# Altium integrated library Analog_Devices_Power_Management_Linear_Regulators.IntLib: 441 symbols (part 10 of 23)
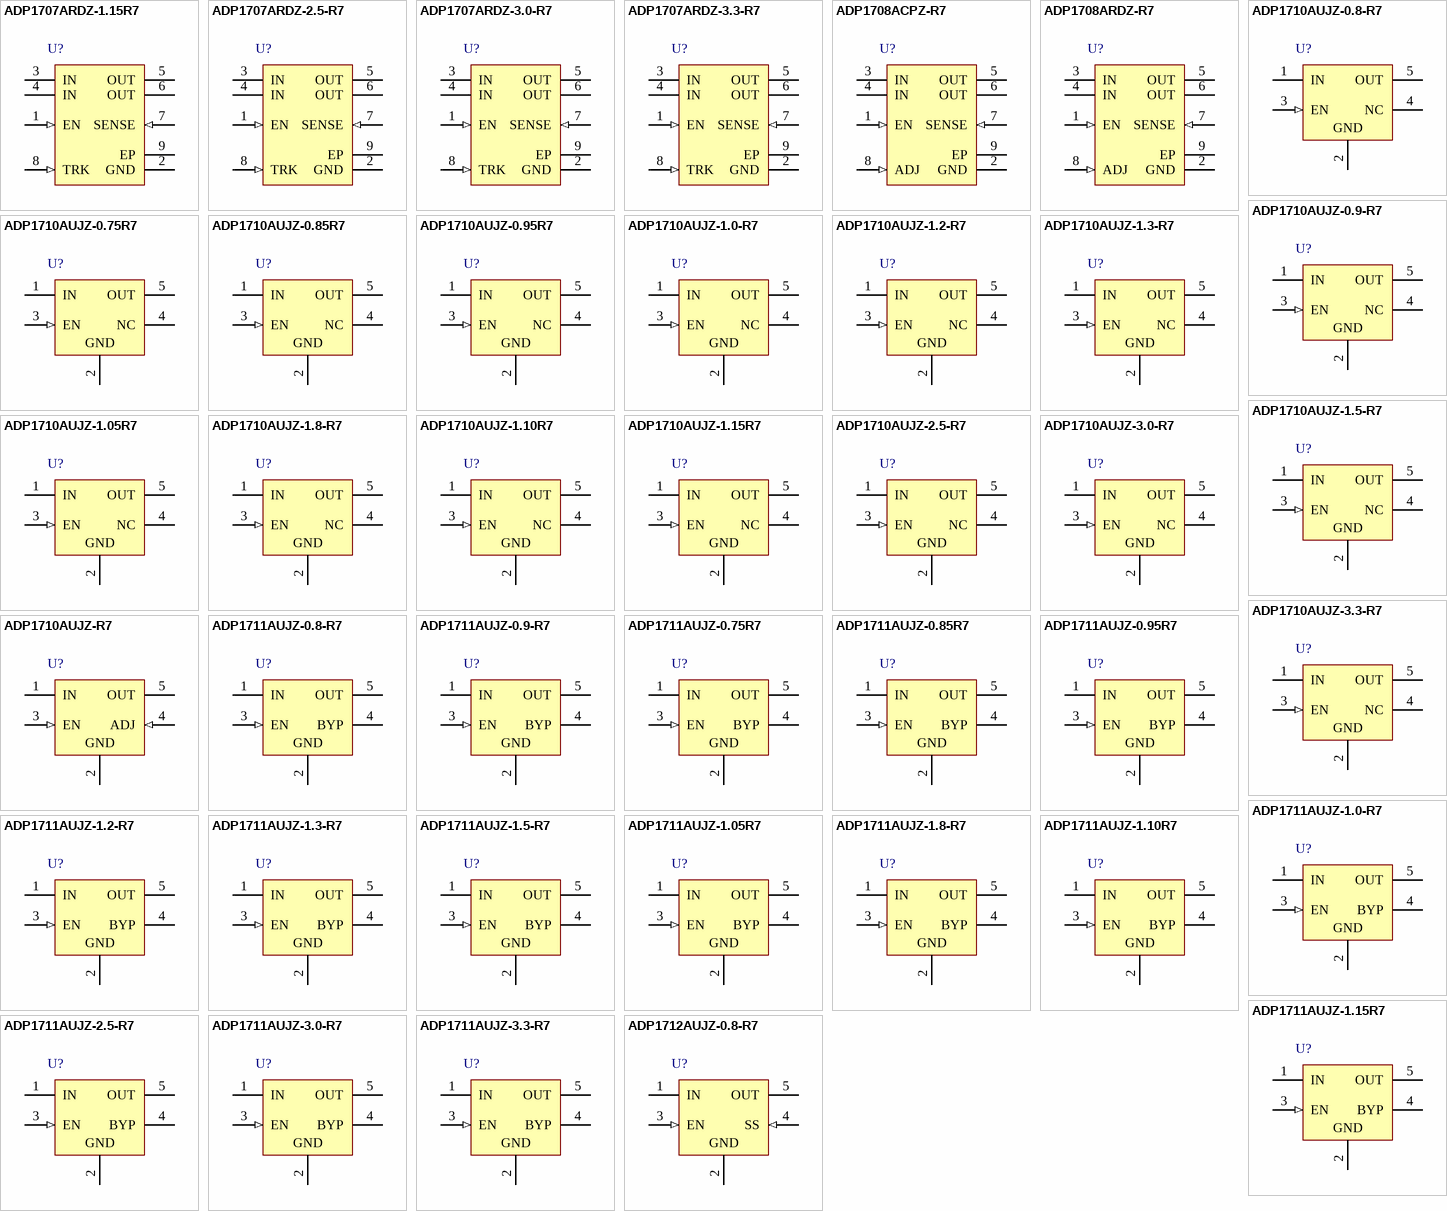
[diagram p20: symbols ADP1707ARDZ-1.15R7 to ADP1712AUJZ-0.8-R7]

## ADP1711AUJZ-1.0-R7
designator U?
150 mA, Low Dropout, CMOS Linear Regulator, 2.5 to 5.5 V Vin, 1 V Vout, Industrial, 5-pin SOT23 (UJ-5), Reel; Manufacturer: Analog Devices; PartNumber: ADP1711AUJZ-1.0-R7; Iout max: 150mA; Preset Vout Values (V): 1.0; Supply Current IGND @ Small Load: 35uA; Vin (max) (V): 5.5; Vin (min) (V): 2.5; DatasheetVersion: Rev. 0; PackageVersion: 100708-A, 10/2008; PackageReference: UJ-5; PackageDescription: 5-Pin Thin Small Outline Transistor Package, Body 2.9 x 1.6 mm, Pitch 0.95 mm; Supplier 1: Digi-Key; Supplier Part Number 1: ADP1711AUJZ-1.0-R7TR-ND; Supplier 2: Digi-Key; Supplier Part Number 2: ADP1711AUJZ-1.0-R7CT-ND; Supplier 3: Digi-Key; Supplier Part Number 3: ADP1711AUJZ-1.0-R7DKR-ND; Supplier 4: Mouser; Supplier Part Number 4: 584-ADP1711AUJZ1.0R7; Packing: Reel; Mounting Technology: Surface Mount; Code_JEDEC: MO-193-AB; ComponentLink1Description: Manufacturer URL; ComponentLink1URL: http://www.analog.com/en/index.html; ComponentLink2Description: Datasheet; ComponentLink2URL: http://www.analog.com/static/imported-files/data_sheets/ADP1710_1711.pdf; ComponentLink3Description: Package Specification; ComponentLink3URL: http:/www.analog.com/static/imported-files/packages/PKG_PDF/TSOT(UJ)/UJ_5.pdf; ComponentLink4Description: URL Link1; ComponentLink4URL: Product URL:http://www.analog.com/en/ADP1711/productSearch.html
footprint ADI-UJ-5_N (SOT23, 5-Leads, Body 2.9x1.6mm, Pitch 0.95mm, IPC Medium Density)
footprint ADI-UJ-5_L (SOT23, 5-Leads, Body 2.9x1.6mm, Pitch 0.95mm, IPC High Density)
footprint ADI-UJ-5_M (SOT23, 5-Leads, Body 2.9x1.6mm, Pitch 0.95mm, IPC Low Density)
pins: 1 IN (power) "Regulator Input Supply. Bypass IN to GND with a 1 uF or greater capacitor.", 2 GND (power) "Ground.", 3 EN (in) "Enable Input. Drive EN high to turn on the regulator; drive it low to turn off the regulator. For automatic startup, connect EN to IN.", 4 BYP "Connect a 1 nF or greater capacitor (10 nF is recommended) between BYP and GND to reduce the internal reference noise for low noise applications.", 5 OUT (power) "Regulated Output Voltage. Bypass OUT to GND with a 1 uF or greater capacitor."

## ADP1711AUJZ-1.2-R7
designator U?
150 mA, Low Dropout, CMOS Linear Regulator, 2.5 to 5.5 V Vin, 1.2 V Vout, Industrial, 5-pin SOT23 (UJ-5), Reel; Manufacturer: Analog Devices; PartNumber: ADP1711AUJZ-1.2-R7; Iout max: 150mA; Preset Vout Values (V): 1.2; Supply Current IGND @ Small Load: 35uA; Vin (max) (V): 5.5; Vin (min) (V): 2.5; DatasheetVersion: Rev. 0; PackageVersion: 100708-A, 10/2008; PackageReference: UJ-5; PackageDescription: 5-Pin Thin Small Outline Transistor Package, Body 2.9 x 1.6 mm, Pitch 0.95 mm; Supplier 1: Digi-Key; Supplier Part Number 1: ADP1711AUJZ-1.2-R7TR-ND; Supplier 2: Digi-Key; Supplier Part Number 2: ADP1711AUJZ-1.2-R7CT-ND; Supplier 3: Digi-Key; Supplier Part Number 3: ADP1711AUJZ-1.2-R7DKR-ND; Supplier 4: Mouser; Supplier Part Number 4: 584-ADP1711AUJZ1.2R7; Packing: Reel; Mounting Technology: Surface Mount; Code_JEDEC: MO-193-AB; ComponentLink1Description: Manufacturer URL; ComponentLink1URL: http://www.analog.com/en/index.html; ComponentLink2Description: Datasheet; ComponentLink2URL: http://www.analog.com/static/imported-files/data_sheets/ADP1710_1711.pdf; ComponentLink3Description: Package Specification; ComponentLink3URL: http:/www.analog.com/static/imported-files/packages/PKG_PDF/TSOT(UJ)/UJ_5.pdf; ComponentLink4Description: URL Link1; ComponentLink4URL: Product URL:http://www.analog.com/en/ADP1711/productSearch.html
footprint ADI-UJ-5_N (SOT23, 5-Leads, Body 2.9x1.6mm, Pitch 0.95mm, IPC Medium Density)
footprint ADI-UJ-5_L (SOT23, 5-Leads, Body 2.9x1.6mm, Pitch 0.95mm, IPC High Density)
footprint ADI-UJ-5_M (SOT23, 5-Leads, Body 2.9x1.6mm, Pitch 0.95mm, IPC Low Density)
pins: 1 IN (power) "Regulator Input Supply. Bypass IN to GND with a 1 uF or greater capacitor.", 2 GND (power) "Ground.", 3 EN (in) "Enable Input. Drive EN high to turn on the regulator; drive it low to turn off the regulator. For automatic startup, connect EN to IN.", 4 BYP "Connect a 1 nF or greater capacitor (10 nF is recommended) between BYP and GND to reduce the internal reference noise for low noise applications.", 5 OUT (power) "Regulated Output Voltage. Bypass OUT to GND with a 1 uF or greater capacitor."

## ADP1711AUJZ-1.3-R7
designator U?
150 mA, Low Dropout, CMOS Linear Regulator, 2.5 to 5.5 V Vin, 1.3 V Vout, Industrial, 5-pin SOT23 (UJ-5), Reel; Manufacturer: Analog Devices; PartNumber: ADP1711AUJZ-1.3-R7; Iout max: 150mA; Preset Vout Values (V): 1.3; Supply Current IGND @ Small Load: 35uA; Vin (max) (V): 5.5; Vin (min) (V): 2.5; DatasheetVersion: Rev. 0; PackageVersion: 100708-A, 10/2008; PackageReference: UJ-5; PackageDescription: 5-Pin Thin Small Outline Transistor Package, Body 2.9 x 1.6 mm, Pitch 0.95 mm; Supplier 1: Digi-Key; Supplier Part Number 1: ADP1711AUJZ-1.3-R7TR-ND; Supplier 2: Digi-Key; Supplier Part Number 2: ADP1711AUJZ-1.3-R7CT-ND; Supplier 3: Digi-Key; Supplier Part Number 3: ADP1711AUJZ-1.3-R7DKR-ND; Supplier 4: Mouser; Supplier Part Number 4: 584-ADP1711AUJZ1.3R7; Packing: Reel; Mounting Technology: Surface Mount; Code_JEDEC: MO-193-AB; ComponentLink1Description: Manufacturer URL; ComponentLink1URL: http://www.analog.com/en/index.html; ComponentLink2Description: Datasheet; ComponentLink2URL: http://www.analog.com/static/imported-files/data_sheets/ADP1710_1711.pdf; ComponentLink3Description: Package Specification; ComponentLink3URL: http:/www.analog.com/static/imported-files/packages/PKG_PDF/TSOT(UJ)/UJ_5.pdf; ComponentLink4Description: URL Link1; ComponentLink4URL: Product URL:http://www.analog.com/en/ADP1711/productSearch.html
footprint ADI-UJ-5_N (SOT23, 5-Leads, Body 2.9x1.6mm, Pitch 0.95mm, IPC Medium Density)
footprint ADI-UJ-5_L (SOT23, 5-Leads, Body 2.9x1.6mm, Pitch 0.95mm, IPC High Density)
footprint ADI-UJ-5_M (SOT23, 5-Leads, Body 2.9x1.6mm, Pitch 0.95mm, IPC Low Density)
pins: 1 IN (power) "Regulator Input Supply. Bypass IN to GND with a 1 uF or greater capacitor.", 2 GND (power) "Ground.", 3 EN (in) "Enable Input. Drive EN high to turn on the regulator; drive it low to turn off the regulator. For automatic startup, connect EN to IN.", 4 BYP "Connect a 1 nF or greater capacitor (10 nF is recommended) between BYP and GND to reduce the internal reference noise for low noise applications.", 5 OUT (power) "Regulated Output Voltage. Bypass OUT to GND with a 1 uF or greater capacitor."

## ADP1711AUJZ-1.5-R7
designator U?
150 mA, Low Dropout, CMOS Linear Regulator, 2.5 to 5.5 V Vin, 1.5 V Vout, Industrial, 5-pin SOT23 (UJ-5), Reel; Manufacturer: Analog Devices; PartNumber: ADP1711AUJZ-1.5-R7; Iout max: 150mA; Preset Vout Values (V): 1.5; Supply Current IGND @ Small Load: 35uA; Vin (max) (V): 5.5; Vin (min) (V): 2.5; DatasheetVersion: Rev. 0; PackageVersion: 100708-A, 10/2008; PackageReference: UJ-5; PackageDescription: 5-Pin Thin Small Outline Transistor Package, Body 2.9 x 1.6 mm, Pitch 0.95 mm; Supplier 1: Digi-Key; Supplier Part Number 1: ADP1711AUJZ-1.5-R7TR-ND; Supplier 2: Digi-Key; Supplier Part Number 2: ADP1711AUJZ-1.5-R7CT-ND; Supplier 3: Digi-Key; Supplier Part Number 3: ADP1711AUJZ-1.5-R7DKR-ND; Supplier 4: Mouser; Supplier Part Number 4: 584-ADP1711AUJZ1.5R7; Packing: Reel; Mounting Technology: Surface Mount; Code_JEDEC: MO-193-AB; ComponentLink1Description: Manufacturer URL; ComponentLink1URL: http://www.analog.com/en/index.html; ComponentLink2Description: Datasheet; ComponentLink2URL: http://www.analog.com/static/imported-files/data_sheets/ADP1710_1711.pdf; ComponentLink3Description: Package Specification; ComponentLink3URL: http:/www.analog.com/static/imported-files/packages/PKG_PDF/TSOT(UJ)/UJ_5.pdf; ComponentLink4Description: URL Link1; ComponentLink4URL: Product URL:http://www.analog.com/en/ADP1711/productSearch.html
footprint ADI-UJ-5_N (SOT23, 5-Leads, Body 2.9x1.6mm, Pitch 0.95mm, IPC Medium Density)
footprint ADI-UJ-5_L (SOT23, 5-Leads, Body 2.9x1.6mm, Pitch 0.95mm, IPC High Density)
footprint ADI-UJ-5_M (SOT23, 5-Leads, Body 2.9x1.6mm, Pitch 0.95mm, IPC Low Density)
pins: 1 IN (power) "Regulator Input Supply. Bypass IN to GND with a 1 uF or greater capacitor.", 2 GND (power) "Ground.", 3 EN (in) "Enable Input. Drive EN high to turn on the regulator; drive it low to turn off the regulator. For automatic startup, connect EN to IN.", 4 BYP "Connect a 1 nF or greater capacitor (10 nF is recommended) between BYP and GND to reduce the internal reference noise for low noise applications.", 5 OUT (power) "Regulated Output Voltage. Bypass OUT to GND with a 1 uF or greater capacitor."

## ADP1711AUJZ-1.05R7
designator U?
150 mA, Low Dropout, CMOS Linear Regulator, 2.5 to 5.5 V Vin, 1.05 V Vout, Industrial, 5-pin SOT23 (UJ-5), Reel; Manufacturer: Analog Devices; PartNumber: ADP1711AUJZ-1.05R7; Iout max: 150mA; Preset Vout Values (V): 1.05; Supply Current IGND @ Small Load: 35uA; Vin (max) (V): 5.5; Vin (min) (V): 2.5; DatasheetVersion: Rev. 0; PackageVersion: 100708-A, 10/2008; PackageReference: UJ-5; PackageDescription: 5-Pin Thin Small Outline Transistor Package, Body 2.9 x 1.6 mm, Pitch 0.95 mm; Supplier 1: Digi-Key; Supplier Part Number 1: ADP1711AUJZ-1.05R7TR-ND; Supplier 2: Digi-Key; Supplier Part Number 2: ADP1711AUJZ-1.05R7CT-ND; Supplier 3: Digi-Key; Supplier Part Number 3: ADP1711AUJZ-1.05R7DKR-ND; Supplier 4: Mouser; Supplier Part Number 4: 584-AP1711AUJZ1.05R7; Packing: Reel; Mounting Technology: Surface Mount; Code_JEDEC: MO-193-AB; ComponentLink1Description: Manufacturer URL; ComponentLink1URL: http://www.analog.com/en/index.html; ComponentLink2Description: Datasheet; ComponentLink2URL: http://www.analog.com/static/imported-files/data_sheets/ADP1710_1711.pdf; ComponentLink3Description: Package Specification; ComponentLink3URL: http:/www.analog.com/static/imported-files/packages/PKG_PDF/TSOT(UJ)/UJ_5.pdf; ComponentLink4Description: URL Link1; ComponentLink4URL: Product URL:http://www.analog.com/en/ADP1711/productSearch.html
footprint ADI-UJ-5_N (SOT23, 5-Leads, Body 2.9x1.6mm, Pitch 0.95mm, IPC Medium Density)
footprint ADI-UJ-5_L (SOT23, 5-Leads, Body 2.9x1.6mm, Pitch 0.95mm, IPC High Density)
footprint ADI-UJ-5_M (SOT23, 5-Leads, Body 2.9x1.6mm, Pitch 0.95mm, IPC Low Density)
pins: 1 IN (power) "Regulator Input Supply. Bypass IN to GND with a 1 uF or greater capacitor.", 2 GND (power) "Ground.", 3 EN (in) "Enable Input. Drive EN high to turn on the regulator; drive it low to turn off the regulator. For automatic startup, connect EN to IN.", 4 BYP "Connect a 1 nF or greater capacitor (10 nF is recommended) between BYP and GND to reduce the internal reference noise for low noise applications.", 5 OUT (power) "Regulated Output Voltage. Bypass OUT to GND with a 1 uF or greater capacitor."

## ADP1711AUJZ-1.8-R7
designator U?
150 mA, Low Dropout, CMOS Linear Regulator, 2.5 to 5.5 V Vin, 1.8 V Vout, Industrial, 5-pin SOT23 (UJ-5), Reel; Manufacturer: Analog Devices; PartNumber: ADP1711AUJZ-1.8-R7; Iout max: 150mA; Preset Vout Values (V): 1.8; Supply Current IGND @ Small Load: 35uA; Vin (max) (V): 5.5; Vin (min) (V): 2.5; DatasheetVersion: Rev. 0; PackageVersion: 100708-A, 10/2008; PackageReference: UJ-5; PackageDescription: 5-Pin Thin Small Outline Transistor Package, Body 2.9 x 1.6 mm, Pitch 0.95 mm; Supplier 1: Digi-Key; Supplier Part Number 1: ADP1711AUJZ-1.8-R7TR-ND; Supplier 2: Digi-Key; Supplier Part Number 2: ADP1711AUJZ-1.8-R7CT-ND; Supplier 3: Digi-Key; Supplier Part Number 3: ADP1711AUJZ-1.8-R7DKR-ND; Supplier 4: Mouser; Supplier Part Number 4: 584-ADP1711AUJZ1.8R7; Packing: Reel; Mounting Technology: Surface Mount; Code_JEDEC: MO-193-AB; ComponentLink1Description: Manufacturer URL; ComponentLink1URL: http://www.analog.com/en/index.html; ComponentLink2Description: Datasheet; ComponentLink2URL: http://www.analog.com/static/imported-files/data_sheets/ADP1710_1711.pdf; ComponentLink3Description: Package Specification; ComponentLink3URL: http:/www.analog.com/static/imported-files/packages/PKG_PDF/TSOT(UJ)/UJ_5.pdf; ComponentLink4Description: URL Link1; ComponentLink4URL: Product URL:http://www.analog.com/en/ADP1711/productSearch.html
footprint ADI-UJ-5_N (SOT23, 5-Leads, Body 2.9x1.6mm, Pitch 0.95mm, IPC Medium Density)
footprint ADI-UJ-5_L (SOT23, 5-Leads, Body 2.9x1.6mm, Pitch 0.95mm, IPC High Density)
footprint ADI-UJ-5_M (SOT23, 5-Leads, Body 2.9x1.6mm, Pitch 0.95mm, IPC Low Density)
pins: 1 IN (power) "Regulator Input Supply. Bypass IN to GND with a 1 uF or greater capacitor.", 2 GND (power) "Ground.", 3 EN (in) "Enable Input. Drive EN high to turn on the regulator; drive it low to turn off the regulator. For automatic startup, connect EN to IN.", 4 BYP "Connect a 1 nF or greater capacitor (10 nF is recommended) between BYP and GND to reduce the internal reference noise for low noise applications.", 5 OUT (power) "Regulated Output Voltage. Bypass OUT to GND with a 1 uF or greater capacitor."

## ADP1711AUJZ-1.10R7
designator U?
150 mA, Low Dropout, CMOS Linear Regulator, 2.5 to 5.5 V Vin, 1.1 V Vout, Industrial, 5-pin SOT23 (UJ-5), Reel; Manufacturer: Analog Devices; PartNumber: ADP1711AUJZ-1.10R7; Iout max: 150mA; Preset Vout Values (V): 1.10; Supply Current IGND @ Small Load: 35uA; Vin (max) (V): 5.5; Vin (min) (V): 2.5; DatasheetVersion: Rev. 0; PackageVersion: 100708-A, 10/2008; PackageReference: UJ-5; PackageDescription: 5-Pin Thin Small Outline Transistor Package, Body 2.9 x 1.6 mm, Pitch 0.95 mm; Supplier 1: Digi-Key; Supplier Part Number 1: ADP1711AUJZ-1.10R7TR-ND; Supplier 2: Digi-Key; Supplier Part Number 2: ADP1711AUJZ-1.10R7CT-ND; Supplier 3: Digi-Key; Supplier Part Number 3: ADP1711AUJZ-1.10R7DKR-ND; Supplier 4: Mouser; Supplier Part Number 4: 584-AP1711AUJZ1.10R7; Packing: Reel; Mounting Technology: Surface Mount; Code_JEDEC: MO-193-AB; ComponentLink1Description: Manufacturer URL; ComponentLink1URL: http://www.analog.com/en/index.html; ComponentLink2Description: Datasheet; ComponentLink2URL: http://www.analog.com/static/imported-files/data_sheets/ADP1710_1711.pdf; ComponentLink3Description: Package Specification; ComponentLink3URL: http:/www.analog.com/static/imported-files/packages/PKG_PDF/TSOT(UJ)/UJ_5.pdf; ComponentLink4Description: URL Link1; ComponentLink4URL: Product URL:http://www.analog.com/en/ADP1711/productSearch.html
footprint ADI-UJ-5_N (SOT23, 5-Leads, Body 2.9x1.6mm, Pitch 0.95mm, IPC Medium Density)
footprint ADI-UJ-5_L (SOT23, 5-Leads, Body 2.9x1.6mm, Pitch 0.95mm, IPC High Density)
footprint ADI-UJ-5_M (SOT23, 5-Leads, Body 2.9x1.6mm, Pitch 0.95mm, IPC Low Density)
pins: 1 IN (power) "Regulator Input Supply. Bypass IN to GND with a 1 uF or greater capacitor.", 2 GND (power) "Ground.", 3 EN (in) "Enable Input. Drive EN high to turn on the regulator; drive it low to turn off the regulator. For automatic startup, connect EN to IN.", 4 BYP "Connect a 1 nF or greater capacitor (10 nF is recommended) between BYP and GND to reduce the internal reference noise for low noise applications.", 5 OUT (power) "Regulated Output Voltage. Bypass OUT to GND with a 1 uF or greater capacitor."

## ADP1711AUJZ-1.15R7
designator U?
150 mA, Low Dropout, CMOS Linear Regulator, 2.5 to 5.5 V Vin, 1.15 V Vout, Industrial, 5-pin SOT23 (UJ-5), Reel; Manufacturer: Analog Devices; PartNumber: ADP1711AUJZ-1.15R7; Iout max: 150mA; Preset Vout Values (V): 1.15; Supply Current IGND @ Small Load: 35uA; Vin (max) (V): 5.5; Vin (min) (V): 2.5; DatasheetVersion: Rev. 0; PackageVersion: 100708-A, 10/2008; PackageReference: UJ-5; PackageDescription: 5-Pin Thin Small Outline Transistor Package, Body 2.9 x 1.6 mm, Pitch 0.95 mm; Supplier 1: Digi-Key; Supplier Part Number 1: ADP1711AUJZ-1.15R7TR-ND; Supplier 2: Digi-Key; Supplier Part Number 2: ADP1711AUJZ-1.15R7CT-ND; Supplier 3: Digi-Key; Supplier Part Number 3: ADP1711AUJZ-1.15R7DKR-ND; Supplier 4: Mouser; Supplier Part Number 4: 584-AP1711AUJZ1.15R7; Packing: Reel; Mounting Technology: Surface Mount; Code_JEDEC: MO-193-AB; ComponentLink1Description: Manufacturer URL; ComponentLink1URL: http://www.analog.com/en/index.html; ComponentLink2Description: Datasheet; ComponentLink2URL: http://www.analog.com/static/imported-files/data_sheets/ADP1710_1711.pdf; ComponentLink3Description: Package Specification; ComponentLink3URL: http:/www.analog.com/static/imported-files/packages/PKG_PDF/TSOT(UJ)/UJ_5.pdf; ComponentLink4Description: URL Link1; ComponentLink4URL: Product URL:http://www.analog.com/en/ADP1711/productSearch.html
footprint ADI-UJ-5_N (SOT23, 5-Leads, Body 2.9x1.6mm, Pitch 0.95mm, IPC Medium Density)
footprint ADI-UJ-5_L (SOT23, 5-Leads, Body 2.9x1.6mm, Pitch 0.95mm, IPC High Density)
footprint ADI-UJ-5_M (SOT23, 5-Leads, Body 2.9x1.6mm, Pitch 0.95mm, IPC Low Density)
pins: 1 IN (power) "Regulator Input Supply. Bypass IN to GND with a 1 uF or greater capacitor.", 2 GND (power) "Ground.", 3 EN (in) "Enable Input. Drive EN high to turn on the regulator; drive it low to turn off the regulator. For automatic startup, connect EN to IN.", 4 BYP "Connect a 1 nF or greater capacitor (10 nF is recommended) between BYP and GND to reduce the internal reference noise for low noise applications.", 5 OUT (power) "Regulated Output Voltage. Bypass OUT to GND with a 1 uF or greater capacitor."

## ADP1711AUJZ-2.5-R7
designator U?
150 mA, Low Dropout, CMOS Linear Regulator, 2.5 to 5.5 V Vin, 2.5 V Vout, Industrial, 5-pin SOT23 (UJ-5), Reel; Manufacturer: Analog Devices; PartNumber: ADP1711AUJZ-2.5-R7; Iout max: 150mA; Preset Vout Values (V): 2.5; Supply Current IGND @ Small Load: 35uA; Vin (max) (V): 5.5; DatasheetVersion: Rev. 0; PackageVersion: 100708-A, 10/2008; PackageReference: UJ-5; PackageDescription: 5-Pin Thin Small Outline Transistor Package, Body 2.9 x 1.6 mm, Pitch 0.95 mm; Supplier 1: Digi-Key; Supplier Part Number 1: ADP1711AUJZ-2.5-R7TR-ND; Supplier 2: Digi-Key; Supplier Part Number 2: ADP1711AUJZ-2.5-R7CT-ND; Supplier 3: Digi-Key; Supplier Part Number 3: ADP1711AUJZ-2.5-R7DKR-ND; Supplier 4: Mouser; Supplier Part Number 4: 584-ADP1711AUJZ2.5R7; Packing: Reel; Vin (min) (V): 2.5; Mounting Technology: Surface Mount; Code_JEDEC: MO-193-AB; ComponentLink1Description: Manufacturer URL; ComponentLink1URL: http://www.analog.com/en/index.html; ComponentLink2Description: Datasheet; ComponentLink2URL: http://www.analog.com/static/imported-files/data_sheets/ADP1710_1711.pdf; ComponentLink3Description: Package Specification; ComponentLink3URL: http:/www.analog.com/static/imported-files/packages/PKG_PDF/TSOT(UJ)/UJ_5.pdf; ComponentLink4Description: URL Link1; ComponentLink4URL: Product URL:http://www.analog.com/en/ADP1711/productSearch.html
footprint ADI-UJ-5_N (SOT23, 5-Leads, Body 2.9x1.6mm, Pitch 0.95mm, IPC Medium Density)
footprint ADI-UJ-5_L (SOT23, 5-Leads, Body 2.9x1.6mm, Pitch 0.95mm, IPC High Density)
footprint ADI-UJ-5_M (SOT23, 5-Leads, Body 2.9x1.6mm, Pitch 0.95mm, IPC Low Density)
pins: 1 IN (power) "Regulator Input Supply. Bypass IN to GND with a 1 uF or greater capacitor.", 2 GND (power) "Ground.", 3 EN (in) "Enable Input. Drive EN high to turn on the regulator; drive it low to turn off the regulator. For automatic startup, connect EN to IN.", 4 BYP "Connect a 1 nF or greater capacitor (10 nF is recommended) between BYP and GND to reduce the internal reference noise for low noise applications.", 5 OUT (power) "Regulated Output Voltage. Bypass OUT to GND with a 1 uF or greater capacitor."

## ADP1711AUJZ-3.0-R7
designator U?
150 mA, Low Dropout, CMOS Linear Regulator, 2.5 to 5.5 V Vin, 3 V Vout, Industrial, 5-pin SOT23 (UJ-5), Reel; Manufacturer: Analog Devices; PartNumber: ADP1711AUJZ-3.0-R7; Iout max: 150mA; Preset Vout Values (V): 3.0; Supply Current IGND @ Small Load: 35uA; Vin (max) (V): 5.5; Vin (min) (V): 2.5; DatasheetVersion: Rev. 0; PackageVersion: 100708-A, 10/2008; PackageReference: UJ-5; PackageDescription: 5-Pin Thin Small Outline Transistor Package, Body 2.9 x 1.6 mm, Pitch 0.95 mm; Supplier 1: Digi-Key; Supplier Part Number 1: ADP1711AUJZ-3.0-R7TR-ND; Supplier 2: Digi-Key; Supplier Part Number 2: ADP1711AUJZ-3.0-R7CT-ND; Supplier 3: Digi-Key; Supplier Part Number 3: ADP1711AUJZ-3.0-R7DKR-ND; Supplier 4: Mouser; Supplier Part Number 4: 584-ADP1711AUJZ3.0R7; Packing: Reel; Mounting Technology: Surface Mount; Code_JEDEC: MO-193-AB; ComponentLink1Description: Manufacturer URL; ComponentLink1URL: http://www.analog.com/en/index.html; ComponentLink2Description: Datasheet; ComponentLink2URL: http://www.analog.com/static/imported-files/data_sheets/ADP1710_1711.pdf; ComponentLink3Description: Package Specification; ComponentLink3URL: http:/www.analog.com/static/imported-files/packages/PKG_PDF/TSOT(UJ)/UJ_5.pdf; ComponentLink4Description: URL Link1; ComponentLink4URL: Product URL:http://www.analog.com/en/ADP1711/productSearch.html
footprint ADI-UJ-5_N (SOT23, 5-Leads, Body 2.9x1.6mm, Pitch 0.95mm, IPC Medium Density)
footprint ADI-UJ-5_L (SOT23, 5-Leads, Body 2.9x1.6mm, Pitch 0.95mm, IPC High Density)
footprint ADI-UJ-5_M (SOT23, 5-Leads, Body 2.9x1.6mm, Pitch 0.95mm, IPC Low Density)
pins: 1 IN (power) "Regulator Input Supply. Bypass IN to GND with a 1 uF or greater capacitor.", 2 GND (power) "Ground.", 3 EN (in) "Enable Input. Drive EN high to turn on the regulator; drive it low to turn off the regulator. For automatic startup, connect EN to IN.", 4 BYP "Connect a 1 nF or greater capacitor (10 nF is recommended) between BYP and GND to reduce the internal reference noise for low noise applications.", 5 OUT (power) "Regulated Output Voltage. Bypass OUT to GND with a 1 uF or greater capacitor."

## ADP1711AUJZ-3.3-R7
designator U?
150 mA, Low Dropout, CMOS Linear Regulator, 2.5 to 5.5 V Vin, 3.3 V Vout, Industrial, 5-pin SOT23 (UJ-5), Reel; Manufacturer: Analog Devices; PartNumber: ADP1711AUJZ-3.3-R7; Iout max: 150mA; Preset Vout Values (V): 3.3; Supply Current IGND @ Small Load: 35uA; Vin (max) (V): 5.5; Vin (min) (V): 2.5; DatasheetVersion: Rev. 0; PackageVersion: 100708-A, 10/2008; PackageReference: UJ-5; PackageDescription: 5-Pin Thin Small Outline Transistor Package, Body 2.9 x 1.6 mm, Pitch 0.95 mm; Supplier 1: Digi-Key; Supplier Part Number 1: ADP1711AUJZ-3.3-R7TR-ND; Supplier 2: Digi-Key; Supplier Part Number 2: ADP1711AUJZ-3.3-R7CT-ND; Supplier 3: Digi-Key; Supplier Part Number 3: ADP1711AUJZ-3.3-R7DKR-ND; Supplier 4: Farnell; Supplier Part Number 4: 2312962; Supplier 5: Newark; Supplier Part Number 5: 67W3145; Supplier 6: Newark; Supplier Part Number 6: 28M3802; Supplier 7: Mouser; Supplier Part Number 7: 584-ADP1711AUJZ3.3R7; Packing: Reel; Mounting Technology: Surface Mount; Code_JEDEC: MO-193-AB; ComponentLink1Description: Manufacturer URL; ComponentLink1URL: http://www.analog.com/en/index.html; ComponentLink2Description: Datasheet; ComponentLink2URL: http://www.analog.com/static/imported-files/data_sheets/ADP1710_1711.pdf; ComponentLink3Description: Package Specification; ComponentLink3URL: http:/www.analog.com/static/imported-files/packages/PKG_PDF/TSOT(UJ)/UJ_5.pdf; ComponentLink4Description: URL Link1; ComponentLink4URL: Product URL:http://www.analog.com/en/ADP1711/productSearch.html
footprint ADI-UJ-5_N (SOT23, 5-Leads, Body 2.9x1.6mm, Pitch 0.95mm, IPC Medium Density)
footprint ADI-UJ-5_L (SOT23, 5-Leads, Body 2.9x1.6mm, Pitch 0.95mm, IPC High Density)
footprint ADI-UJ-5_M (SOT23, 5-Leads, Body 2.9x1.6mm, Pitch 0.95mm, IPC Low Density)
pins: 1 IN (power) "Regulator Input Supply. Bypass IN to GND with a 1 uF or greater capacitor.", 2 GND (power) "Ground.", 3 EN (in) "Enable Input. Drive EN high to turn on the regulator; drive it low to turn off the regulator. For automatic startup, connect EN to IN.", 4 BYP "Connect a 1 nF or greater capacitor (10 nF is recommended) between BYP and GND to reduce the internal reference noise for low noise applications.", 5 OUT (power) "Regulated Output Voltage. Bypass OUT to GND with a 1 uF or greater capacitor."

## ADP1712AUJZ-0.8-R7
designator U?
300 mA, Low Dropout CMOS Linear Regulator, 2.5 to 5.5 V Vin, 0.8 V Vout, Industrial, 5-pin SOT23 (UJ-5), Reel; Manufacturer: Analog Devices; PartNumber: ADP1712AUJZ-0.8-R7; Iout max: 300mA; Preset Vout Values (V): 0.8; Supply Current IGND @ Small Load: 60uA; Vin (max) (V): 5.5; Vin (min) (V): 2.5; DatasheetVersion: Rev. A; PackageVersion: 100708-A, 10/2008; PackageReference: UJ-5; PackageDescription: 5-Pin Thin Small Outline Transistor Package, Body 2.9 x 1.6 mm, Pitch 0.95 mm; Supplier 1: Digi-Key; Supplier Part Number 1: ADP1712AUJZ-0.8-R7TR-ND; Supplier 2: Digi-Key; Supplier Part Number 2: ADP1712AUJZ-0.8-R7CT-ND; Supplier 3: Digi-Key; Supplier Part Number 3: ADP1712AUJZ-0.8-R7DKR-ND; Supplier 4: Mouser; Supplier Part Number 4: 584-ADP1712AUJZ0.8R7; Packing: Reel; Mounting Technology: Surface Mount; Code_JEDEC: MO-193-AB; ComponentLink1Description: Manufacturer URL; ComponentLink1URL: http://www.analog.com/en/index.html; ComponentLink2Description: Datasheet; ComponentLink2URL: http://www.analog.com/static/imported-files/data_sheets/ADP1712_1713_1714.pdf; ComponentLink3Description: Package Specification; ComponentLink3URL: http:/www.analog.com/static/imported-files/packages/PKG_PDF/TSOT(UJ)/UJ_5.pdf; ComponentLink4Description: URL Link1; ComponentLink4URL: Product URL:http://www.analog.com/en/ADP1712/productSearch.html
footprint ADI-UJ-5_N (SOT23, 5-Leads, Body 2.9x1.6mm, Pitch 0.95mm, IPC Medium Density)
footprint ADI-UJ-5_L (SOT23, 5-Leads, Body 2.9x1.6mm, Pitch 0.95mm, IPC High Density)
footprint ADI-UJ-5_M (SOT23, 5-Leads, Body 2.9x1.6mm, Pitch 0.95mm, IPC Low Density)
pins: 1 IN (power) "Regulator Input Supply. Bypass IN to GND with a 2.2 uF or greater capacitor", 2 GND (power) "Ground.", 3 EN (in) "Enable Input. Drive EN high to turn on the regulator; drive it low to turn  off the regulator. For automatic startup, connect EN to IN.", 4 SS (in) "Soft Start. Connect a capacitor between SS and GND to set the output start-up time", 5 OUT (power) "Regulated Output Voltage. Bypass OUT to GND with a 2.2 uF or greater capacitor."

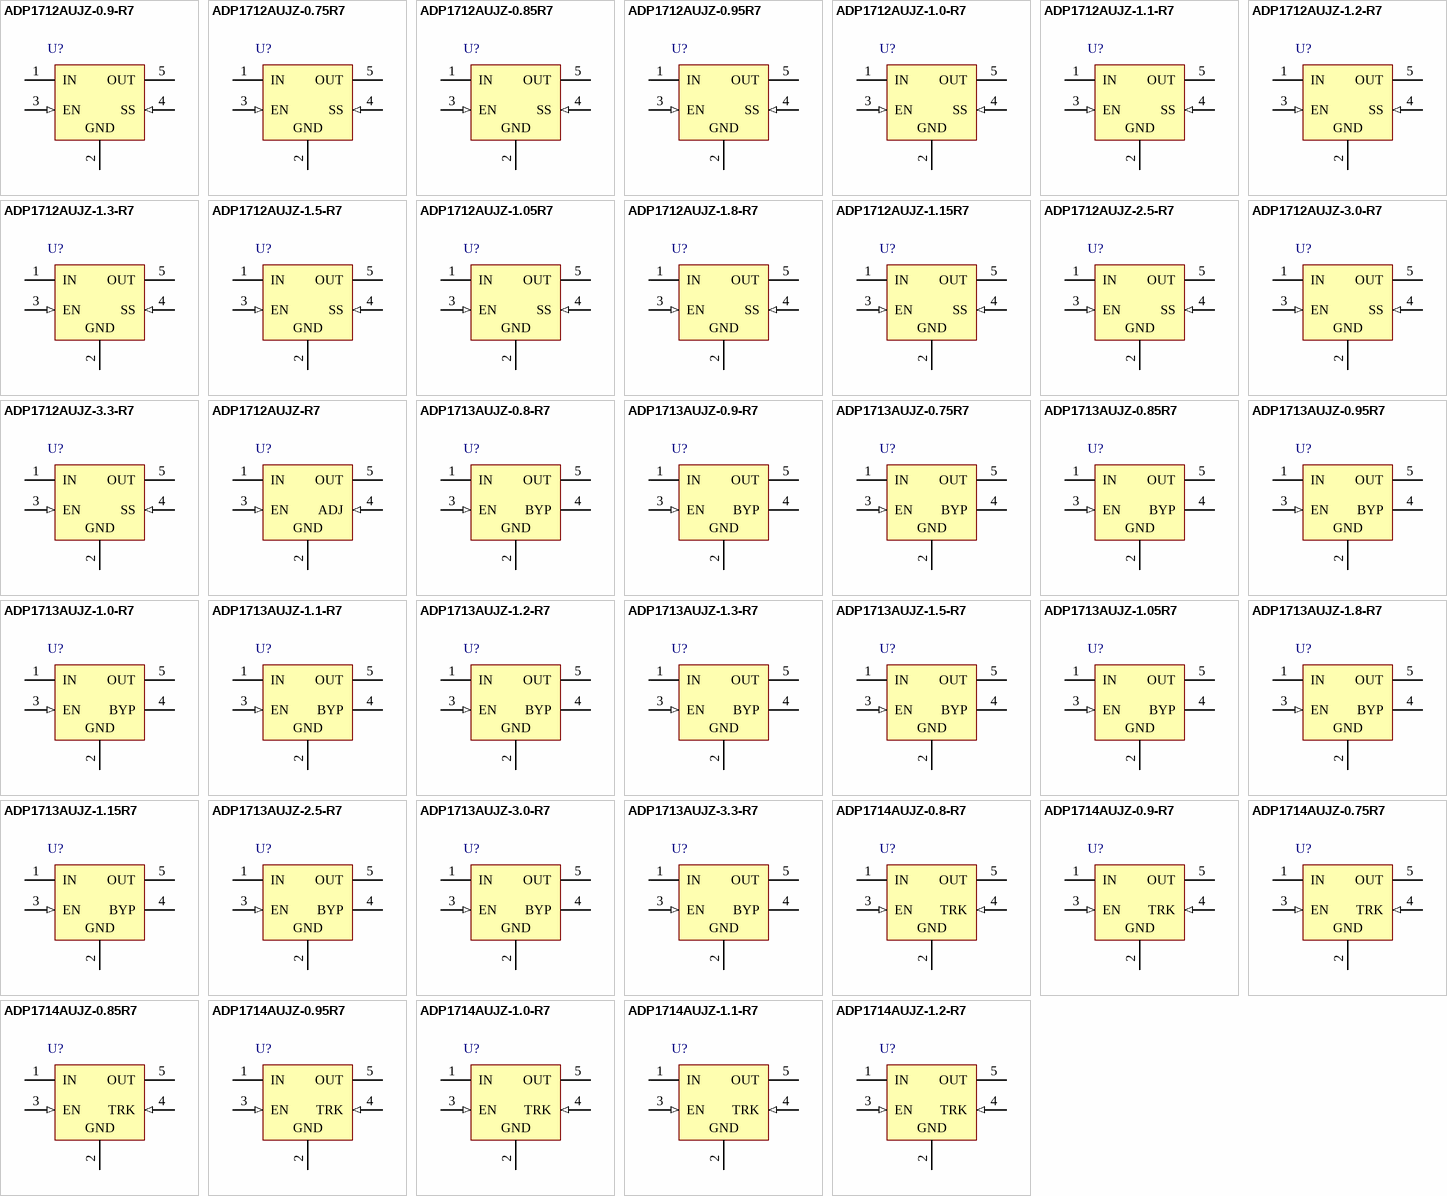
[diagram p5: symbols ADP1712AUJZ-0.9-R7 to ADP1714AUJZ-1.2-R7]

## ADP1712AUJZ-0.9-R7
designator U?
300 mA, Low Dropout CMOS Linear Regulator, 2.5 to 5.5 V Vin, 0.9 V Vout, Industrial, 5-pin SOT23 (UJ-5), Reel; Manufacturer: Analog Devices; PartNumber: ADP1712AUJZ-0.9-R7; Iout max: 300mA; Preset Vout Values (V): 0.9; Supply Current IGND @ Small Load: 60uA; Vin (max) (V): 5.5; Vin (min) (V): 2.5; DatasheetVersion: Rev. A; PackageVersion: 100708-A, 10/2008; PackageReference: UJ-5; PackageDescription: 5-Pin Thin Small Outline Transistor Package, Body 2.9 x 1.6 mm, Pitch 0.95 mm; Supplier 1: Digi-Key; Supplier Part Number 1: ADP1712AUJZ-0.9-R7TR-ND; Supplier 2: Digi-Key; Supplier Part Number 2: ADP1712AUJZ-0.9-R7CT-ND; Supplier 3: Digi-Key; Supplier Part Number 3: ADP1712AUJZ-0.9-R7DKR-ND; Supplier 4: Mouser; Supplier Part Number 4: 584-ADP1712AUJZ0.9R7; Packing: Reel; Mounting Technology: Surface Mount; Code_JEDEC: MO-193-AB; ComponentLink1Description: Manufacturer URL; ComponentLink1URL: http://www.analog.com/en/index.html; ComponentLink2Description: Datasheet; ComponentLink2URL: http://www.analog.com/static/imported-files/data_sheets/ADP1712_1713_1714.pdf; ComponentLink3Description: Package Specification; ComponentLink3URL: http:/www.analog.com/static/imported-files/packages/PKG_PDF/TSOT(UJ)/UJ_5.pdf; ComponentLink4Description: URL Link1; ComponentLink4URL: Product URL:http://www.analog.com/en/ADP1712/productSearch.html
footprint ADI-UJ-5_N (SOT23, 5-Leads, Body 2.9x1.6mm, Pitch 0.95mm, IPC Medium Density)
footprint ADI-UJ-5_L (SOT23, 5-Leads, Body 2.9x1.6mm, Pitch 0.95mm, IPC High Density)
footprint ADI-UJ-5_M (SOT23, 5-Leads, Body 2.9x1.6mm, Pitch 0.95mm, IPC Low Density)
pins: 1 IN (power) "Regulator Input Supply. Bypass IN to GND with a 2.2 uF or greater capacitor", 2 GND (power) "Ground.", 3 EN (in) "Enable Input. Drive EN high to turn on the regulator; drive it low to turn  off the regulator. For automatic startup, connect EN to IN.", 4 SS (in) "Soft Start. Connect a capacitor between SS and GND to set the output start-up time", 5 OUT (power) "Regulated Output Voltage. Bypass OUT to GND with a 2.2 uF or greater capacitor."

## ADP1712AUJZ-0.75R7
designator U?
300 mA, Low Dropout CMOS Linear Regulator, 2.5 to 5.5 V Vin, 0.75 V Vout, Industrial, 5-pin SOT23 (UJ-5), Reel; Manufacturer: Analog Devices; PartNumber: ADP1712AUJZ-0.75R7; Iout max: 300mA; Preset Vout Values (V): 0.75; Supply Current IGND @ Small Load: 60uA; Vin (max) (V): 5.5; Vin (min) (V): 2.5; DatasheetVersion: Rev. A; PackageVersion: 100708-A, 10/2008; PackageReference: UJ-5; PackageDescription: 5-Pin Thin Small Outline Transistor Package, Body 2.9 x 1.6 mm, Pitch 0.95 mm; Supplier 1: Digi-Key; Supplier Part Number 1: ADP1712AUJZ-0.75R7TR-ND; Supplier 2: Digi-Key; Supplier Part Number 2: ADP1712AUJZ-0.75R7CT-ND; Supplier 3: Digi-Key; Supplier Part Number 3: ADP1712AUJZ-0.75R7DKR-ND; Supplier 4: Mouser; Supplier Part Number 4: 584-AP1712AUJZ0.75R7; Packing: Reel; Mounting Technology: Surface Mount; Code_JEDEC: MO-193-AB; ComponentLink1Description: Manufacturer URL; ComponentLink1URL: http://www.analog.com/en/index.html; ComponentLink2Description: Datasheet; ComponentLink2URL: http://www.analog.com/static/imported-files/data_sheets/ADP1712_1713_1714.pdf; ComponentLink3Description: Package Specification; ComponentLink3URL: http:/www.analog.com/static/imported-files/packages/PKG_PDF/TSOT(UJ)/UJ_5.pdf; ComponentLink4Description: URL Link1; ComponentLink4URL: Product URL:http://www.analog.com/en/ADP1712/productSearch.html
footprint ADI-UJ-5_N (SOT23, 5-Leads, Body 2.9x1.6mm, Pitch 0.95mm, IPC Medium Density)
footprint ADI-UJ-5_L (SOT23, 5-Leads, Body 2.9x1.6mm, Pitch 0.95mm, IPC High Density)
footprint ADI-UJ-5_M (SOT23, 5-Leads, Body 2.9x1.6mm, Pitch 0.95mm, IPC Low Density)
pins: 1 IN (power) "Regulator Input Supply. Bypass IN to GND with a 2.2 uF or greater capacitor", 2 GND (power) "Ground.", 3 EN (in) "Enable Input. Drive EN high to turn on the regulator; drive it low to turn  off the regulator. For automatic startup, connect EN to IN.", 4 SS (in) "Soft Start. Connect a capacitor between SS and GND to set the output start-up time", 5 OUT (power) "Regulated Output Voltage. Bypass OUT to GND with a 2.2 uF or greater capacitor."

## ADP1712AUJZ-0.85R7
designator U?
300 mA, Low Dropout CMOS Linear Regulator, 2.5 to 5.5 V Vin, 0.85 V Vout, Industrial, 5-pin SOT23 (UJ-5), Reel; Manufacturer: Analog Devices; PartNumber: ADP1712AUJZ-0.85R7; Iout max: 300mA; Preset Vout Values (V): 0.85; Supply Current IGND @ Small Load: 60uA; Vin (max) (V): 5.5; Vin (min) (V): 2.5; DatasheetVersion: Rev. A; PackageVersion: 100708-A, 10/2008; PackageReference: UJ-5; PackageDescription: 5-Pin Thin Small Outline Transistor Package, Body 2.9 x 1.6 mm, Pitch 0.95 mm; Supplier 1: Digi-Key; Supplier Part Number 1: ADP1712AUJZ-0.85R7TR-ND; Supplier 2: Digi-Key; Supplier Part Number 2: ADP1712AUJZ-0.85R7CT-ND; Supplier 3: Digi-Key; Supplier Part Number 3: ADP1712AUJZ-0.85R7DKR-ND; Supplier 4: Mouser; Supplier Part Number 4: 584-AP1712AUJZ0.85R7; Packing: Reel; Mounting Technology: Surface Mount; Code_JEDEC: MO-193-AB; ComponentLink1Description: Manufacturer URL; ComponentLink1URL: http://www.analog.com/en/index.html; ComponentLink2Description: Datasheet; ComponentLink2URL: http://www.analog.com/static/imported-files/data_sheets/ADP1712_1713_1714.pdf; ComponentLink3Description: Package Specification; ComponentLink3URL: http:/www.analog.com/static/imported-files/packages/PKG_PDF/TSOT(UJ)/UJ_5.pdf; ComponentLink4Description: URL Link1; ComponentLink4URL: Product URL:http://www.analog.com/en/ADP1712/productSearch.html
footprint ADI-UJ-5_N (SOT23, 5-Leads, Body 2.9x1.6mm, Pitch 0.95mm, IPC Medium Density)
footprint ADI-UJ-5_L (SOT23, 5-Leads, Body 2.9x1.6mm, Pitch 0.95mm, IPC High Density)
footprint ADI-UJ-5_M (SOT23, 5-Leads, Body 2.9x1.6mm, Pitch 0.95mm, IPC Low Density)
pins: 1 IN (power) "Regulator Input Supply. Bypass IN to GND with a 2.2 uF or greater capacitor", 2 GND (power) "Ground.", 3 EN (in) "Enable Input. Drive EN high to turn on the regulator; drive it low to turn  off the regulator. For automatic startup, connect EN to IN.", 4 SS (in) "Soft Start. Connect a capacitor between SS and GND to set the output start-up time", 5 OUT (power) "Regulated Output Voltage. Bypass OUT to GND with a 2.2 uF or greater capacitor."

## ADP1712AUJZ-0.95R7
designator U?
300 mA, Low Dropout CMOS Linear Regulator, 2.5 to 5.5 V Vin, 0.95 V Vout, Industrial, 5-pin SOT23 (UJ-5), Reel; Manufacturer: Analog Devices; PartNumber: ADP1712AUJZ-0.95R7; Iout max: 300mA; Preset Vout Values (V): 0.95; Supply Current IGND @ Small Load: 60uA; Vin (max) (V): 5.5; Vin (min) (V): 2.5; DatasheetVersion: Rev. A; PackageVersion: 100708-A, 10/2008; PackageReference: UJ-5; PackageDescription: 5-Pin Thin Small Outline Transistor Package, Body 2.9 x 1.6 mm, Pitch 0.95 mm; Supplier 1: Digi-Key; Supplier Part Number 1: ADP1712AUJZ-0.95R7TR-ND; Supplier 2: Digi-Key; Supplier Part Number 2: ADP1712AUJZ-0.95R7CT-ND; Supplier 3: Digi-Key; Supplier Part Number 3: ADP1712AUJZ-0.95R7DKR-ND; Supplier 4: Mouser; Supplier Part Number 4: 584-AP1712AUJZ0.95R7; Packing: Reel; Mounting Technology: Surface Mount; Code_JEDEC: MO-193-AB; ComponentLink1Description: Manufacturer URL; ComponentLink1URL: http://www.analog.com/en/index.html; ComponentLink2Description: Datasheet; ComponentLink2URL: http://www.analog.com/static/imported-files/data_sheets/ADP1712_1713_1714.pdf; ComponentLink3Description: Package Specification; ComponentLink3URL: http:/www.analog.com/static/imported-files/packages/PKG_PDF/TSOT(UJ)/UJ_5.pdf; ComponentLink4Description: URL Link1; ComponentLink4URL: Product URL:http://www.analog.com/en/ADP1712/productSearch.html
footprint ADI-UJ-5_N (SOT23, 5-Leads, Body 2.9x1.6mm, Pitch 0.95mm, IPC Medium Density)
footprint ADI-UJ-5_L (SOT23, 5-Leads, Body 2.9x1.6mm, Pitch 0.95mm, IPC High Density)
footprint ADI-UJ-5_M (SOT23, 5-Leads, Body 2.9x1.6mm, Pitch 0.95mm, IPC Low Density)
pins: 1 IN (power) "Regulator Input Supply. Bypass IN to GND with a 2.2 uF or greater capacitor", 2 GND (power) "Ground.", 3 EN (in) "Enable Input. Drive EN high to turn on the regulator; drive it low to turn  off the regulator. For automatic startup, connect EN to IN.", 4 SS (in) "Soft Start. Connect a capacitor between SS and GND to set the output start-up time", 5 OUT (power) "Regulated Output Voltage. Bypass OUT to GND with a 2.2 uF or greater capacitor."

## ADP1712AUJZ-1.0-R7
designator U?
300 mA, Low Dropout CMOS Linear Regulator, 2.5 to 5.5 V Vin, 1 V Vout, Industrial, 5-pin SOT23 (UJ-5), Reel; Manufacturer: Analog Devices; PartNumber: ADP1712AUJZ-1.0-R7; Iout max: 300mA; Preset Vout Values (V): 1.0; Supply Current IGND @ Small Load: 60uA; Vin (max) (V): 5.5; Vin (min) (V): 2.5; DatasheetVersion: Rev. A; PackageVersion: 100708-A, 10/2008; PackageReference: UJ-5; PackageDescription: 5-Pin Thin Small Outline Transistor Package, Body 2.9 x 1.6 mm, Pitch 0.95 mm; Supplier 1: Digi-Key; Supplier Part Number 1: ADP1712AUJZ-1.0-R7TR-ND; Supplier 2: Digi-Key; Supplier Part Number 2: ADP1712AUJZ-1.0-R7CT-ND; Supplier 3: Digi-Key; Supplier Part Number 3: ADP1712AUJZ-1.0-R7DKR-ND; Supplier 4: Newark; Supplier Part Number 4: 34M4829; Supplier 5: Mouser; Supplier Part Number 5: 584-ADP1712AUJZ1.0R7; Packing: Reel; Mounting Technology: Surface Mount; Code_JEDEC: MO-193-AB; ComponentLink1Description: Manufacturer URL; ComponentLink1URL: http://www.analog.com/en/index.html; ComponentLink2Description: Datasheet; ComponentLink2URL: http://www.analog.com/static/imported-files/data_sheets/ADP1712_1713_1714.pdf; ComponentLink3Description: Package Specification; ComponentLink3URL: http:/www.analog.com/static/imported-files/packages/PKG_PDF/TSOT(UJ)/UJ_5.pdf; ComponentLink4Description: URL Link1; ComponentLink4URL: Product URL:http://www.analog.com/en/ADP1712/productSearch.html
footprint ADI-UJ-5_N (SOT23, 5-Leads, Body 2.9x1.6mm, Pitch 0.95mm, IPC Medium Density)
footprint ADI-UJ-5_L (SOT23, 5-Leads, Body 2.9x1.6mm, Pitch 0.95mm, IPC High Density)
footprint ADI-UJ-5_M (SOT23, 5-Leads, Body 2.9x1.6mm, Pitch 0.95mm, IPC Low Density)
pins: 1 IN (power) "Regulator Input Supply. Bypass IN to GND with a 2.2 uF or greater capacitor", 2 GND (power) "Ground.", 3 EN (in) "Enable Input. Drive EN high to turn on the regulator; drive it low to turn  off the regulator. For automatic startup, connect EN to IN.", 4 SS (in) "Soft Start. Connect a capacitor between SS and GND to set the output start-up time", 5 OUT (power) "Regulated Output Voltage. Bypass OUT to GND with a 2.2 uF or greater capacitor."

## ADP1712AUJZ-1.1-R7
designator U?
300 mA, Low Dropout CMOS Linear Regulator, 2.5 to 5.5 V Vin, 1.1 V Vout, Industrial, 5-pin SOT23 (UJ-5), Reel; Manufacturer: Analog Devices; PartNumber: ADP1712AUJZ-1.1-R7; Iout max: 300mA; Preset Vout Values (V): 1.1; Supply Current IGND @ Small Load: 60uA; Vin (max) (V): 5.5; Vin (min) (V): 2.5; DatasheetVersion: Rev. A; PackageVersion: 100708-A, 10/2008; PackageReference: UJ-5; PackageDescription: 5-Pin Thin Small Outline Transistor Package, Body 2.9 x 1.6 mm, Pitch 0.95 mm; Supplier 1: Digi-Key; Supplier Part Number 1: ADP1712AUJZ-1.1-R7TR-ND; Supplier 2: Digi-Key; Supplier Part Number 2: ADP1712AUJZ-1.1-R7CT-ND; Supplier 3: Digi-Key; Supplier Part Number 3: ADP1712AUJZ-1.1-R7DKR-ND; Supplier 4: Mouser; Supplier Part Number 4: 584-ADP1712AUJZ1.1R7; Packing: Reel; Mounting Technology: Surface Mount; Code_JEDEC: MO-193-AB; ComponentLink1Description: Manufacturer URL; ComponentLink1URL: http://www.analog.com/en/index.html; ComponentLink2Description: Datasheet; ComponentLink2URL: http://www.analog.com/static/imported-files/data_sheets/ADP1712_1713_1714.pdf; ComponentLink3Description: Package Specification; ComponentLink3URL: http:/www.analog.com/static/imported-files/packages/PKG_PDF/TSOT(UJ)/UJ_5.pdf; ComponentLink4Description: URL Link1; ComponentLink4URL: Product URL:http://www.analog.com/en/ADP1712/productSearch.html
footprint ADI-UJ-5_N (SOT23, 5-Leads, Body 2.9x1.6mm, Pitch 0.95mm, IPC Medium Density)
footprint ADI-UJ-5_L (SOT23, 5-Leads, Body 2.9x1.6mm, Pitch 0.95mm, IPC High Density)
footprint ADI-UJ-5_M (SOT23, 5-Leads, Body 2.9x1.6mm, Pitch 0.95mm, IPC Low Density)
pins: 1 IN (power) "Regulator Input Supply. Bypass IN to GND with a 2.2 uF or greater capacitor", 2 GND (power) "Ground.", 3 EN (in) "Enable Input. Drive EN high to turn on the regulator; drive it low to turn  off the regulator. For automatic startup, connect EN to IN.", 4 SS (in) "Soft Start. Connect a capacitor between SS and GND to set the output start-up time", 5 OUT (power) "Regulated Output Voltage. Bypass OUT to GND with a 2.2 uF or greater capacitor."

## ADP1712AUJZ-1.2-R7
designator U?
300 mA, Low Dropout CMOS Linear Regulator, 2.5 to 5.5 V Vin, 1.2 V Vout, Industrial, 5-pin SOT23 (UJ-5), Reel; Manufacturer: Analog Devices; PartNumber: ADP1712AUJZ-1.2-R7; Iout max: 300mA; Preset Vout Values (V): 1.2; Supply Current IGND @ Small Load: 60uA; Vin (max) (V): 5.5; Vin (min) (V): 2.5; DatasheetVersion: Rev. A; PackageVersion: 100708-A, 10/2008; PackageReference: UJ-5; PackageDescription: 5-Pin Thin Small Outline Transistor Package, Body 2.9 x 1.6 mm, Pitch 0.95 mm; Supplier 1: Digi-Key; Supplier Part Number 1: ADP1712AUJZ-1.2-R7TR-ND; Supplier 2: Digi-Key; Supplier Part Number 2: ADP1712AUJZ-1.2-R7CT-ND; Supplier 3: Digi-Key; Supplier Part Number 3: ADP1712AUJZ-1.2-R7DKR-ND; Supplier 4: Newark; Supplier Part Number 4: 34M4833; Supplier 5: Mouser; Supplier Part Number 5: 584-ADP1712AUJZ1.2R7; Packing: Reel; Mounting Technology: Surface Mount; Code_JEDEC: MO-193-AB; ComponentLink1Description: Manufacturer URL; ComponentLink1URL: http://www.analog.com/en/index.html; ComponentLink2Description: Datasheet; ComponentLink2URL: http://www.analog.com/static/imported-files/data_sheets/ADP1712_1713_1714.pdf; ComponentLink3Description: Package Specification; ComponentLink3URL: http:/www.analog.com/static/imported-files/packages/PKG_PDF/TSOT(UJ)/UJ_5.pdf; ComponentLink4Description: URL Link1; ComponentLink4URL: Product URL:http://www.analog.com/en/ADP1712/productSearch.html
footprint ADI-UJ-5_N (SOT23, 5-Leads, Body 2.9x1.6mm, Pitch 0.95mm, IPC Medium Density)
footprint ADI-UJ-5_L (SOT23, 5-Leads, Body 2.9x1.6mm, Pitch 0.95mm, IPC High Density)
footprint ADI-UJ-5_M (SOT23, 5-Leads, Body 2.9x1.6mm, Pitch 0.95mm, IPC Low Density)
pins: 1 IN (power) "Regulator Input Supply. Bypass IN to GND with a 2.2 uF or greater capacitor", 2 GND (power) "Ground.", 3 EN (in) "Enable Input. Drive EN high to turn on the regulator; drive it low to turn  off the regulator. For automatic startup, connect EN to IN.", 4 SS (in) "Soft Start. Connect a capacitor between SS and GND to set the output start-up time", 5 OUT (power) "Regulated Output Voltage. Bypass OUT to GND with a 2.2 uF or greater capacitor."

## ADP1712AUJZ-1.3-R7
designator U?
300 mA, Low Dropout CMOS Linear Regulator, 2.5 to 5.5 V Vin, 1.3 V Vout, Industrial, 5-pin SOT23 (UJ-5), Reel; Manufacturer: Analog Devices; PartNumber: ADP1712AUJZ-1.3-R7; Iout max: 300mA; Preset Vout Values (V): 1.3; Supply Current IGND @ Small Load: 60uA; Vin (max) (V): 5.5; Vin (min) (V): 2.5; DatasheetVersion: Rev. A; PackageVersion: 100708-A, 10/2008; PackageReference: UJ-5; PackageDescription: 5-Pin Thin Small Outline Transistor Package, Body 2.9 x 1.6 mm, Pitch 0.95 mm; Supplier 1: Digi-Key; Supplier Part Number 1: ADP1712AUJZ-1.3-R7TR-ND; Supplier 2: Digi-Key; Supplier Part Number 2: ADP1712AUJZ-1.3-R7CT-ND; Supplier 3: Digi-Key; Supplier Part Number 3: ADP1712AUJZ-1.3-R7DKR-ND; Supplier 4: Mouser; Supplier Part Number 4: 584-ADP1712AUJZ1.3R7; Packing: Reel; Mounting Technology: Surface Mount; Code_JEDEC: MO-193-AB; ComponentLink1Description: Manufacturer URL; ComponentLink1URL: http://www.analog.com/en/index.html; ComponentLink2Description: Datasheet; ComponentLink2URL: http://www.analog.com/static/imported-files/data_sheets/ADP1712_1713_1714.pdf; ComponentLink3Description: Package Specification; ComponentLink3URL: http:/www.analog.com/static/imported-files/packages/PKG_PDF/TSOT(UJ)/UJ_5.pdf; ComponentLink4Description: URL Link1; ComponentLink4URL: Product URL:http://www.analog.com/en/ADP1712/productSearch.html
footprint ADI-UJ-5_N (SOT23, 5-Leads, Body 2.9x1.6mm, Pitch 0.95mm, IPC Medium Density)
footprint ADI-UJ-5_L (SOT23, 5-Leads, Body 2.9x1.6mm, Pitch 0.95mm, IPC High Density)
footprint ADI-UJ-5_M (SOT23, 5-Leads, Body 2.9x1.6mm, Pitch 0.95mm, IPC Low Density)
pins: 1 IN (power) "Regulator Input Supply. Bypass IN to GND with a 2.2 uF or greater capacitor", 2 GND (power) "Ground.", 3 EN (in) "Enable Input. Drive EN high to turn on the regulator; drive it low to turn  off the regulator. For automatic startup, connect EN to IN.", 4 SS (in) "Soft Start. Connect a capacitor between SS and GND to set the output start-up time", 5 OUT (power) "Regulated Output Voltage. Bypass OUT to GND with a 2.2 uF or greater capacitor."

## ADP1712AUJZ-1.5-R7
designator U?
300 mA, Low Dropout CMOS Linear Regulator, 2.5 to 5.5 V Vin, 1.5 V Vout, Industrial, 5-pin SOT23 (UJ-5), Reel; Manufacturer: Analog Devices; PartNumber: ADP1712AUJZ-1.5-R7; Iout max: 300mA; Preset Vout Values (V): 1.5; Supply Current IGND @ Small Load: 60uA; Vin (max) (V): 5.5; Vin (min) (V): 2.5; DatasheetVersion: Rev. A; PackageVersion: 100708-A, 10/2008; PackageReference: UJ-5; PackageDescription: 5-Pin Thin Small Outline Transistor Package, Body 2.9 x 1.6 mm, Pitch 0.95 mm; Supplier 1: Digi-Key; Supplier Part Number 1: ADP1712AUJZ-1.5-R7TR-ND; Supplier 2: Digi-Key; Supplier Part Number 2: ADP1712AUJZ-1.5-R7CT-ND; Supplier 3: Digi-Key; Supplier Part Number 3: ADP1712AUJZ-1.5-R7DKR-ND; Supplier 4: Mouser; Supplier Part Number 4: 584-ADP1712AUJZ1.5R7; Packing: Reel; Mounting Technology: Surface Mount; Code_JEDEC: MO-193-AB; ComponentLink1Description: Manufacturer URL; ComponentLink1URL: http://www.analog.com/en/index.html; ComponentLink2Description: Datasheet; ComponentLink2URL: http://www.analog.com/static/imported-files/data_sheets/ADP1712_1713_1714.pdf; ComponentLink3Description: Package Specification; ComponentLink3URL: http:/www.analog.com/static/imported-files/packages/PKG_PDF/TSOT(UJ)/UJ_5.pdf; ComponentLink4Description: URL Link1; ComponentLink4URL: Product URL:http://www.analog.com/en/ADP1712/productSearch.html
footprint ADI-UJ-5_N (SOT23, 5-Leads, Body 2.9x1.6mm, Pitch 0.95mm, IPC Medium Density)
footprint ADI-UJ-5_L (SOT23, 5-Leads, Body 2.9x1.6mm, Pitch 0.95mm, IPC High Density)
footprint ADI-UJ-5_M (SOT23, 5-Leads, Body 2.9x1.6mm, Pitch 0.95mm, IPC Low Density)
pins: 1 IN (power) "Regulator Input Supply. Bypass IN to GND with a 2.2 uF or greater capacitor", 2 GND (power) "Ground.", 3 EN (in) "Enable Input. Drive EN high to turn on the regulator; drive it low to turn  off the regulator. For automatic startup, connect EN to IN.", 4 SS (in) "Soft Start. Connect a capacitor between SS and GND to set the output start-up time", 5 OUT (power) "Regulated Output Voltage. Bypass OUT to GND with a 2.2 uF or greater capacitor."

## ADP1712AUJZ-1.05R7
designator U?
300 mA, Low Dropout CMOS Linear Regulator, 2.5 to 5.5 V Vin, 1.05 V Vout, Industrial, 5-pin SOT23 (UJ-5), Reel; Manufacturer: Analog Devices; PartNumber: ADP1712AUJZ-1.05R7; Iout max: 300mA; Preset Vout Values (V): 1.05; Supply Current IGND @ Small Load: 60uA; Vin (max) (V): 5.5; Vin (min) (V): 2.5; DatasheetVersion: Rev. A; PackageVersion: 100708-A, 10/2008; PackageReference: UJ-5; PackageDescription: 5-Pin Thin Small Outline Transistor Package, Body 2.9 x 1.6 mm, Pitch 0.95 mm; Supplier 1: Digi-Key; Supplier Part Number 1: ADP1712AUJZ-1.05R7TR-ND; Supplier 2: Digi-Key; Supplier Part Number 2: ADP1712AUJZ-1.05R7CT-ND; Supplier 3: Digi-Key; Supplier Part Number 3: ADP1712AUJZ-1.05R7DKR-ND; Supplier 4: Mouser; Supplier Part Number 4: 584-AP1712AUJZ1.05R7; Packing: Reel; Mounting Technology: Surface Mount; Code_JEDEC: MO-193-AB; ComponentLink1Description: Manufacturer URL; ComponentLink1URL: http://www.analog.com/en/index.html; ComponentLink2Description: Datasheet; ComponentLink2URL: http://www.analog.com/static/imported-files/data_sheets/ADP1712_1713_1714.pdf; ComponentLink3Description: Package Specification; ComponentLink3URL: http:/www.analog.com/static/imported-files/packages/PKG_PDF/TSOT(UJ)/UJ_5.pdf; ComponentLink4Description: URL Link1; ComponentLink4URL: Product URL:http://www.analog.com/en/ADP1712/productSearch.html
footprint ADI-UJ-5_N (SOT23, 5-Leads, Body 2.9x1.6mm, Pitch 0.95mm, IPC Medium Density)
footprint ADI-UJ-5_L (SOT23, 5-Leads, Body 2.9x1.6mm, Pitch 0.95mm, IPC High Density)
footprint ADI-UJ-5_M (SOT23, 5-Leads, Body 2.9x1.6mm, Pitch 0.95mm, IPC Low Density)
pins: 1 IN (power) "Regulator Input Supply. Bypass IN to GND with a 2.2 uF or greater capacitor", 2 GND (power) "Ground.", 3 EN (in) "Enable Input. Drive EN high to turn on the regulator; drive it low to turn  off the regulator. For automatic startup, connect EN to IN.", 4 SS (in) "Soft Start. Connect a capacitor between SS and GND to set the output start-up time", 5 OUT (power) "Regulated Output Voltage. Bypass OUT to GND with a 2.2 uF or greater capacitor."

## ADP1712AUJZ-1.8-R7
designator U?
300 mA, Low Dropout CMOS Linear Regulator, 2.5 to 5.5 V Vin, 1.8 V Vout, Industrial, 5-pin SOT23 (UJ-5), Reel; Manufacturer: Analog Devices; PartNumber: ADP1712AUJZ-1.8-R7; Iout max: 300mA; Preset Vout Values (V): 1.8; Supply Current IGND @ Small Load: 60uA; Vin (max) (V): 5.5; Vin (min) (V): 2.5; DatasheetVersion: Rev. A; PackageVersion: 100708-A, 10/2008; PackageReference: UJ-5; PackageDescription: 5-Pin Thin Small Outline Transistor Package, Body 2.9 x 1.6 mm, Pitch 0.95 mm; Supplier 1: Digi-Key; Supplier Part Number 1: ADP1712AUJZ-1.8-R7TR-ND; Supplier 2: Digi-Key; Supplier Part Number 2: ADP1712AUJZ-1.8-R7CT-ND; Supplier 3: Digi-Key; Supplier Part Number 3: ADP1712AUJZ-1.8-R7DKR-ND; Supplier 4: Farnell; Supplier Part Number 4: 2312964; Supplier 5: Newark; Supplier Part Number 5: 34M4836; Supplier 6: Newark; Supplier Part Number 6: 67W3147; Supplier 7: Mouser; Supplier Part Number 7: 584-ADP1712AUJZ1.8R7; Packing: Reel; Mounting Technology: Surface Mount; Code_JEDEC: MO-193-AB; ComponentLink1Description: Manufacturer URL; ComponentLink1URL: http://www.analog.com/en/index.html; ComponentLink2Description: Datasheet; ComponentLink2URL: http://www.analog.com/static/imported-files/data_sheets/ADP1712_1713_1714.pdf; ComponentLink3Description: Package Specification; ComponentLink3URL: http:/www.analog.com/static/imported-files/packages/PKG_PDF/TSOT(UJ)/UJ_5.pdf; ComponentLink4Description: URL Link1; ComponentLink4URL: Product URL:http://www.analog.com/en/ADP1712/productSearch.html
footprint ADI-UJ-5_N (SOT23, 5-Leads, Body 2.9x1.6mm, Pitch 0.95mm, IPC Medium Density)
footprint ADI-UJ-5_L (SOT23, 5-Leads, Body 2.9x1.6mm, Pitch 0.95mm, IPC High Density)
footprint ADI-UJ-5_M (SOT23, 5-Leads, Body 2.9x1.6mm, Pitch 0.95mm, IPC Low Density)
pins: 1 IN (power) "Regulator Input Supply. Bypass IN to GND with a 2.2 uF or greater capacitor", 2 GND (power) "Ground.", 3 EN (in) "Enable Input. Drive EN high to turn on the regulator; drive it low to turn  off the regulator. For automatic startup, connect EN to IN.", 4 SS (in) "Soft Start. Connect a capacitor between SS and GND to set the output start-up time", 5 OUT (power) "Regulated Output Voltage. Bypass OUT to GND with a 2.2 uF or greater capacitor."